# EAGLE library part IRF9358TRPBF (library TRANSISTORs)
Mosfet Array 2 P-Channel (Dual) 30V 9.2A 2W Surface Mount 8-SO
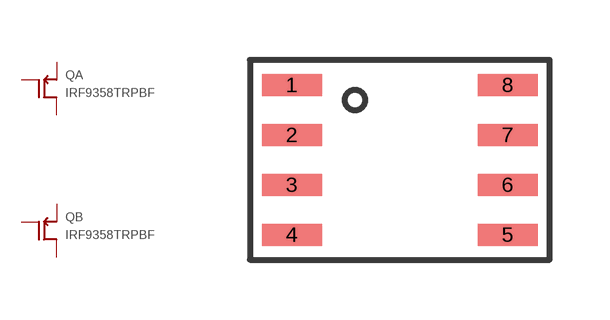
[diagram p4: symbol with the pads of SO8; footprint SO8]

Designator prefix Q; gates A=P_FET B=P_FET

## IRF9358TRPBF (DIGIKEY: IRF9358TRPBFCT-ND; HEIGHT: 1.5; PRICE_PER: 0.8; VALUE: IRF9358TRPBF)  [SO8]
1  B:S
2  B:G
3  A:S
4  A:G
5  A:D
6  A:D
7  B:D
8  B:D

## Footprint SO8 (pad centres in mm)
smd 1.5 x 0.55: 1 -2.7,1.875; 2 -2.7,0.625; 3 -2.7,-0.625; 4 -2.7,-1.875; 5 2.7,-1.875; 6 2.7,-0.625; 7 2.7,0.625; 8 2.7,1.875